# Altium footprint library SamacSys.PcbLib: 49 footprints (part 4 of 4)
Each footprint in its own frame and in the unit in brackets; x right, y up, seen from the top. Pads: shape width x height; smd on the part's side, far side on the other; paste and mask are expansions set on the pad; w line width, h text height; cw(c..) or ccw(c..) is an arc to the next point about the centre after c.
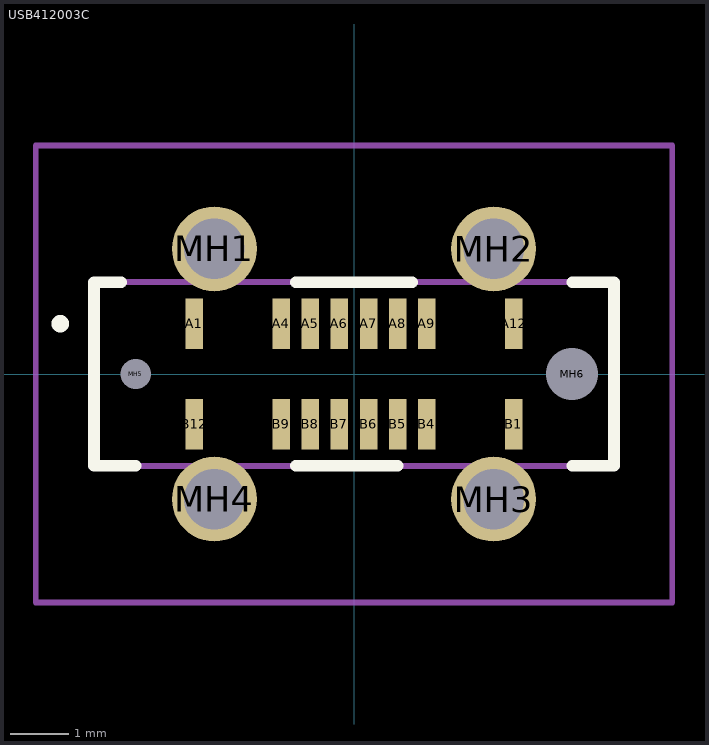
[diagram p3: the footprint, top view; thin cyan lines are the x and y axes]

## USB412003C [mm]
pads (22):
  rect 0.3x0.87 smd: A1(-2.75,0.865) A4(-1.25,0.865) A5(-0.75,0.865) A6(-0.25,0.865) A7(0.25,0.865) A8(0.75,0.865) A9(1.25,0.865) A12(2.75,0.865) B1(2.75,-0.865) B4(1.25,-0.865) B5(0.75,-0.865) B6(0.25,-0.865) B7(-0.25,-0.865) B8(-0.75,-0.865) B9(-1.25,-0.865) B12(-2.75,-0.865)
  round 1.46 hole 1.04: MH1(-2.4,2.15) MH2(2.4,2.15) MH3(2.4,-2.15) MH4(-2.4,-2.15)
  round 0.26 hole 0.52 unplated: MH5(-3.75,0)
  round 0.445 hole 0.89 unplated: MH6(3.75,0)
Top Overlay:
  lines w0.2: -5.1,0.865 cw(c-5.05,0.865) -5,0.865 ; -5.1,0.865 ccw(c-5.05,0.865) -5,0.865 ; -5.1,0.865 -5,0.865 ; -4.47,-1.58 -4.47,1.58 ; -4.47,-1.58 -4.47,1.58 ; -4.47,-1.58 -3.75,-1.58 -4.47,-1.58 ; -4.47,1.58 -4,1.58 -4.47,1.58 ; 4.47,-1.58 4.47,1.58 ; 4.47,-1.58 4.47,1.58 ; 4.47,-1.58 3.75,-1.58 4.47,-1.58 ; 4.47,1.58 3.75,1.58 4.47,1.58 ; -1,-1.58 0.75,-1.58 -1,-1.58 ; -1,1.58 1,1.58 -1,1.58
Mechanical 13:
  lines w0.1: -4.47,-1.58 -4.47,1.58 4.47,1.58 4.47,-1.58 -4.47,-1.58
Mechanical 15:
  lines w0.1: -5.47,-3.93 -5.47,3.93 5.47,3.93 5.47,-3.93 -5.47,-3.93
3D body "USB4120-03-C.stp": height 6.5, standoff -0.95, extent -4.47,-2.3 4.47,2.3